# EAGLE library part MAX86141ENP+ (library MAX86141ENP+)
MAXIM INTEGRATED PRODUCTS - MAX86141ENP+ - PULSE OXIMETER/HEART RATE SENSOR, WLP-20 Source: Datasheet <https://datasheets.maximintegrated.com/en/ds/MAX86140-MAX86141.pdf>
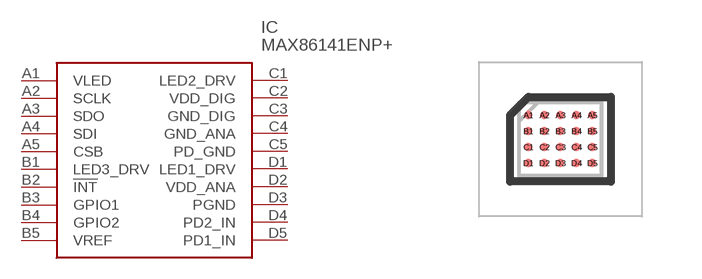
[diagram p0: symbol with the pads of BGA20C40P5X4_205X185X50; footprint BGA20C40P5X4_205X185X50]

Designator prefix IC

## MAX86141ENP+ (Description: MAXIM INTEGRATED PRODUCTS - MAX86141ENP+ - PULSE OXIMETER/HEART RATE SENSOR, WLP-20; Height: 0.5mm; Manufacturer_Name: Analog Devices; Manufacturer_Part_Number: MAX86141ENP+; Mouser_Part_Number: 700-MAX86141ENP+; Mouser_Price-Stock: https://www.mouser.co.uk/ProductDetail/Analog-Devices-Maxim-Integrated/MAX86141ENP%2b?qs=YCa%2FAAYMW01jqVI3kzZSjA%3D%3D)  [BGA20C40P5X4_205X185X50]
A1  VLED
A2  SCLK
A3  SDO
A4  SDI
A5  CSB
B1  LED3_DRV
B2  !INT
B3  GPIO1
B4  GPIO2
B5  VREF
C1  LED2_DRV
C2  VDD_DIG
C3  GND_DIG
C4  GND_ANA
C5  PD_GND
D1  LED1_DRV
D2  VDD_ANA
D3  PGND
D4  PD2_IN
D5  PD1_IN

## Footprint BGA20C40P5X4_205X185X50 (pad centres in mm)
20-pin WLP, 2.048mm x 1.848mm,
smd 0.216 x 0.216: A1 -0.8,0.6; A2 -0.4,0.6; A3 0,0.6; A4 0.4,0.6; A5 0.8,0.6; B1 -0.8,0.2; B2 -0.4,0.2; B3 0,0.2; B4 0.4,0.2; B5 0.8,0.2; C1 -0.8,-0.2; C2 -0.4,-0.2; C3 0,-0.2; C4 0.4,-0.2; C5 0.8,-0.2; D1 -0.8,-0.6; D2 -0.4,-0.6; D3 0,-0.6; D4 0.4,-0.6; D5 0.8,-0.6